# EAGLE library part IC_TPS6120X (library dp_devices)
Low input voltage Synchronous Boost converter
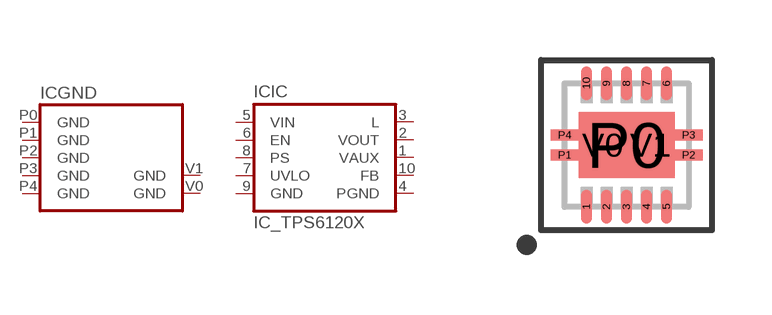
[diagram p105: symbol with the pads of QFN-10; footprint QFN-10]

Designator prefix IC; gates IC=TPS6120X GND=QFN-10-GND

## IC_TPS6120X-QFN10  [QFN-10]
1  IC:VAUX
2  IC:VOUT  out
3  IC:L  in
4  IC:PGND  sup
5  IC:VIN  in
6  IC:EN  in
7  IC:UVLO  in
8  IC:PS  in
9  IC:GND  sup
10  IC:FB  in
P0  GND:GND  sup
P1  GND:GND  sup
P2  GND:GND  sup
P3  GND:GND  sup
P4  GND:GND  sup
V0  GND:GND  sup
V1  GND:GND  sup

## Footprint QFN-10 (pad centres in mm)
10 pins Quad Flat Leadless Size: 3 x 3 mm Pads: 0.85 x 0.28 mm pads Pin Pitch: 0.5mm pitch
smd 0.28 x 0.85: 1 -1,-1.545; 2 -0.5,-1.545; 3 0,-1.545; 4 0.5,-1.545; 5 1,-1.545; 6 1,1.545; 7 0.5,1.545; 8 0,1.545; 9 -0.5,1.545; 10 -1,1.545
smd 2.4 x 1.65: P0 0,0
smd 0.7 x 0.28: P1 -1.55,-0.25; P2 1.55,-0.25; P3 1.55,0.25; P4 -1.55,0.25
drill 0.381: V0 -0.6,0; V1 0.6,0